# Altium schematic symbol library Markovic_Mario.SchLib: 5 symbols
Pins are listed as number, name and electrical type; pins without a type are passive.

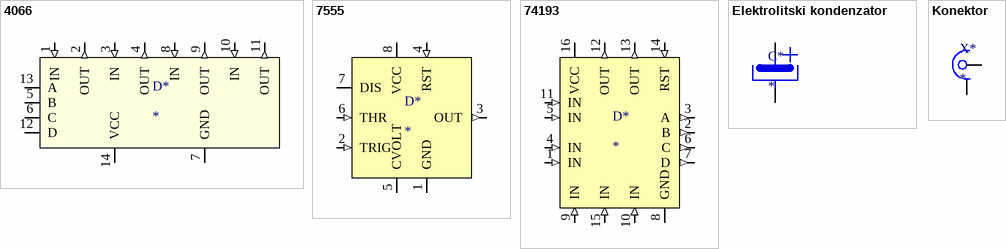
[diagram p0: symbols 4066 to Konektor]

## 4066
designator D*
pins: 1 IN (in), 2 OUT (out), 3 IN (in), 4 OUT (out), 5 B, 6 C, 7 GND (power), 8 IN (in), 9 OUT (out), 10 IN (in), 11 OUT (out), 12 D, 13 A, 14 VCC (power)

## 7555
designator D*
pins: 1 GND (power), 2 TRIG (in), 3 OUT (out), 4 RST (in), 5 CVOLT, 6 THR (in), 7 DIS, 8 VCC (power)

## 74193
designator D*
pins: 1 IN (in), 2 B (out), 3 A (out), 4 IN (in), 5 IN (in), 6 C (out), 7 D (out), 8 GND (power), 9 IN (in), 10 IN (in), 11 IN (in), 12 OUT (out), 13 OUT (out), 14 RST (in), 15 IN (in), 16 VCC (power)

## Elektrolitski kondenzator
designator C*
Value: *
pins: 1, 2

## Konektor
designator X*
pins: 1, 2